# Altium footprint library ionis.PcbLib: 70 footprints (part 4 of 5)
Each footprint in its own frame and in the unit in brackets; x right, y up, seen from the top. Pads: shape width x height; smd on the part's side, far side on the other; paste and mask are expansions set on the pad; w line width, h text height; cw(c..) or ccw(c..) is an arc to the next point about the centre after c.
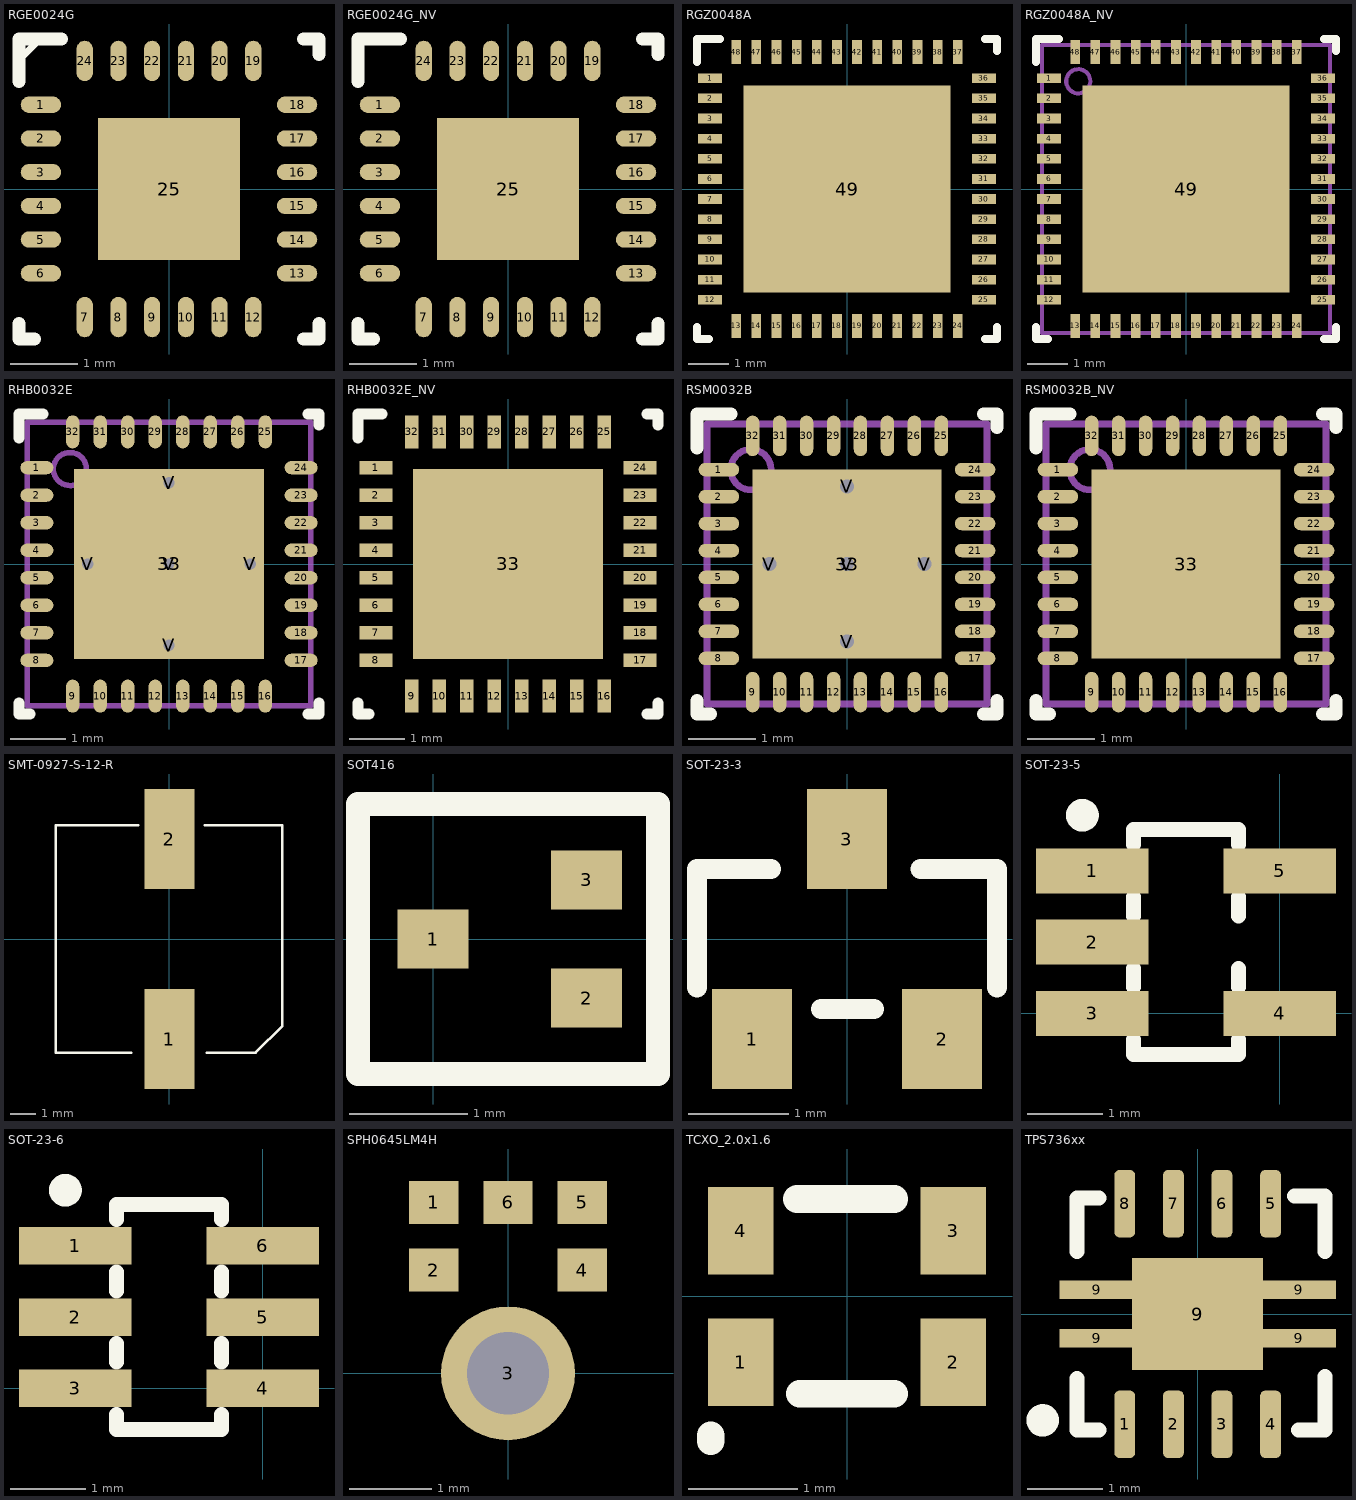
[diagram p3: the footprints below, top view; thin cyan lines are the x and y axes]

## RGE0024G [mm]
pads (25):
  oval 0.6x0.24 smd paste+0 mask+0.051: 1(-1.9,1.25) 2(-1.9,0.75) 3(-1.9,0.25) 4(-1.9,-0.25) 5(-1.9,-0.75) 6(-1.9,-1.25) 13(1.9,-1.25) 14(1.9,-0.75) 15(1.9,-0.25) 16(1.9,0.25) 17(1.9,0.75) 18(1.9,1.25)
  oval 0.24x0.6 smd paste+0 mask+0.051: 7(-1.25,-1.9) 8(-0.75,-1.9) 9(-0.25,-1.9) 10(0.25,-1.9) 11(0.75,-1.9) 12(1.25,-1.9) 19(1.25,1.9) 20(0.75,1.9) 21(0.25,1.9) 22(-0.25,1.9) 23(-0.75,1.9) 24(-1.25,1.9)
  rect 2.1x2.1 smd paste-1.037 mask+0.051: 25(0,0)
Top Overlay:
  lines w0.102: -1.912,2.225 -2.225,1.913 ; -2.225,1.913 -2.225,1.913
  lines w0.2: -2.225,-2 -2.225,-2.225 -2,-2.225 ; -2.225,1.6 -2.225,2.225 -1.6,2.225 ; 2,-2.225 2.225,-2.225 2.225,-2 ; 2,2.225 2.225,2.225 2.225,2
Top Paste:
  region: 0.1,1.039 0.1,0.1 1.039,0.1 1.039,1.039
  region: -0.1,0.1 -0.1,1.039 -1.039,1.039 -1.039,0.1
  region: -0.1,-1.039 -0.1,-0.1 -1.039,-0.1 -1.039,-1.039
  region: 0.1,-0.1 0.1,-1.039 1.039,-1.039 1.039,-0.1
3D body: height 0.25, standoff 0, extent 0,0 0.254,0.254

## RGE0024G_NV [mm]
pads (25):
  oval 0.6x0.24 smd paste+0 mask+0.051: 1(-1.9,1.25) 2(-1.9,0.75) 3(-1.9,0.25) 4(-1.9,-0.25) 5(-1.9,-0.75) 6(-1.9,-1.25) 13(1.9,-1.25) 14(1.9,-0.75) 15(1.9,-0.25) 16(1.9,0.25) 17(1.9,0.75) 18(1.9,1.25)
  oval 0.24x0.6 smd paste+0 mask+0.051: 7(-1.25,-1.9) 8(-0.75,-1.9) 9(-0.25,-1.9) 10(0.25,-1.9) 11(0.75,-1.9) 12(1.25,-1.9) 19(1.25,1.9) 20(0.75,1.9) 21(0.25,1.9) 22(-0.25,1.9) 23(-0.75,1.9) 24(-1.25,1.9)
  rect 2.1x2.1 smd paste-1.037 mask+0.051: 25(0,0)
Top Overlay:
  lines w0.2: -2.225,-2 -2.225,-2.225 -2,-2.225 ; -2.225,1.6 -2.225,2.225 -1.6,2.225 ; 2,-2.225 2.225,-2.225 2.225,-2 ; 2,2.225 2.225,2.225 2.225,2
Top Paste:
  region: 0.1,-0.1 0.1,-1.039 1.039,-1.039 1.039,-0.1
  region: -0.1,-1.039 -0.1,-0.1 -1.039,-0.1 -1.039,-1.039
  region: -0.1,0.1 -0.1,1.039 -1.039,1.039 -1.039,0.1
  region: 0.1,1.039 0.1,0.1 1.039,0.1 1.039,1.039
3D body: height 0.25, standoff 0, extent 0,0 0.254,0.254

## RGZ0048A [mm]
pads (49):
  rect 0.6x0.24 smd paste+0 mask+0.051: 1(-3.4,2.75) 2(-3.4,2.25) 3(-3.4,1.75) 4(-3.4,1.25) 5(-3.4,0.75) 6(-3.4,0.25) 7(-3.4,-0.25) 8(-3.4,-0.75) 9(-3.4,-1.25) 10(-3.4,-1.75) 11(-3.4,-2.25) 12(-3.4,-2.75) 25(3.4,-2.75) 26(3.4,-2.25) 27(3.4,-1.75) 28(3.4,-1.25) 29(3.4,-0.75) 30(3.4,-0.25) 31(3.4,0.25) 32(3.4,0.75) 33(3.4,1.25) 34(3.4,1.75) 35(3.4,2.25) 36(3.4,2.75)
  rect 0.24x0.6 smd paste+0 mask+0.051: 13(-2.75,-3.4) 14(-2.25,-3.4) 15(-1.75,-3.4) 16(-1.25,-3.4) 17(-0.75,-3.4) 18(-0.25,-3.4) 19(0.25,-3.4) 20(0.75,-3.4) 21(1.25,-3.4) 22(1.75,-3.4) 23(2.25,-3.4) 24(2.75,-3.4) 37(2.75,3.4) 38(2.25,3.4) 39(1.75,3.4) 40(1.25,3.4) 41(0.75,3.4) 42(0.25,3.4) 43(-0.25,3.4) 44(-0.75,3.4) 45(-1.25,3.4) 46(-1.75,3.4) 47(-2.25,3.4) 48(-2.75,3.4)
  rect 5.15x5.15 smd paste-2.562 mask+0.051: 49(0,0)
Top Overlay:
  lines w0.2: -3.725,-3.425 -3.725,-3.725 -3.425,-3.725 ; -3.725,3.15 -3.725,3.725 -3.15,3.725 ; 3.425,-3.725 3.725,-3.725 3.725,-3.425 ; 3.425,3.725 3.725,3.725 3.725,3.425

## RGZ0048A_NV [mm]
pads (49):
  rect 0.6x0.24 smd paste+0 mask+0.051: 1(-3.4,2.75) 2(-3.4,2.25) 3(-3.4,1.75) 4(-3.4,1.25) 5(-3.4,0.75) 6(-3.4,0.25) 7(-3.4,-0.25) 8(-3.4,-0.75) 9(-3.4,-1.25) 10(-3.4,-1.75) 11(-3.4,-2.25) 12(-3.4,-2.75) 25(3.4,-2.75) 26(3.4,-2.25) 27(3.4,-1.75) 28(3.4,-1.25) 29(3.4,-0.75) 30(3.4,-0.25) 31(3.4,0.25) 32(3.4,0.75) 33(3.4,1.25) 34(3.4,1.75) 35(3.4,2.25) 36(3.4,2.75)
  rect 0.24x0.6 smd paste+0 mask+0.051: 13(-2.75,-3.4) 14(-2.25,-3.4) 15(-1.75,-3.4) 16(-1.25,-3.4) 17(-0.75,-3.4) 18(-0.25,-3.4) 19(0.25,-3.4) 20(0.75,-3.4) 21(1.25,-3.4) 22(1.75,-3.4) 23(2.25,-3.4) 24(2.75,-3.4) 37(2.75,3.4) 38(2.25,3.4) 39(1.75,3.4) 40(1.25,3.4) 41(0.75,3.4) 42(0.25,3.4) 43(-0.25,3.4) 44(-0.75,3.4) 45(-1.25,3.4) 46(-1.75,3.4) 47(-2.25,3.4) 48(-2.75,3.4)
  rect 5.15x5.15 smd paste-2.562 mask+0.051: 49(0,0)
Top Overlay:
  lines w0.2: -3.725,-3.425 -3.725,-3.725 -3.425,-3.725 ; -3.725,3.15 -3.725,3.725 -3.15,3.725 ; 3.425,-3.725 3.725,-3.725 3.725,-3.425 ; 3.425,3.725 3.725,3.725 3.725,3.425
Top Paste:
  region: -0.903,-2.31 -0.903,-0.903 -2.31,-0.903 -2.31,-2.31
  region: 0.904,-0.903 0.904,-2.31 2.311,-2.31 2.311,-0.903
  region: -0.703,-0.903 -0.703,-2.31 0.704,-2.31 0.704,-0.903
  region: -0.703,2.311 -0.703,0.904 0.704,0.904 0.704,2.311
  region: 0.904,2.311 0.904,0.904 2.311,0.904 2.311,2.311
  region: -0.903,0.904 -0.903,2.311 -2.31,2.311 -2.31,0.904
  region: -0.903,-0.703 -0.903,0.704 -2.31,0.704 -2.31,-0.703
  region: 0.904,0.704 0.904,-0.703 2.311,-0.703 2.311,0.704
  region: -0.703,0.704 -0.703,-0.703 0.704,-0.703 0.704,0.704
Mechanical 13:
  circle w0.1: c-2.675,2.675 r0.3
  lines w0.1: -3.575,-3.575 3.575,-3.575 3.575,3.575 -3.575,3.575 -3.575,-3.575

## RHB0032E [mm]
pads (38):
  oval 0.6x0.24 smd paste+0 mask+0.051: 1(-2.4,1.75) 2(-2.4,1.25) 3(-2.4,0.75) 4(-2.4,0.25) 5(-2.4,-0.25) 6(-2.4,-0.75) 7(-2.4,-1.25) 8(-2.4,-1.75) 17(2.4,-1.75) 18(2.4,-1.25) 19(2.4,-0.75) 20(2.4,-0.25) 21(2.4,0.25) 22(2.4,0.75) 23(2.4,1.25) 24(2.4,1.75)
  oval 0.24x0.6 smd paste+0 mask+0.051: 9(-1.75,-2.4) 10(-1.25,-2.4) 11(-0.75,-2.4) 12(-0.25,-2.4) 13(0.25,-2.4) 14(0.75,-2.4) 15(1.25,-2.4) 16(1.75,-2.4) 25(1.75,2.4) 26(1.25,2.4) 27(0.75,2.4) 28(0.25,2.4) 29(-0.25,2.4) 30(-0.75,2.4) 31(-1.25,2.4) 32(-1.75,2.4)
  rect 3.45x3.45 smd paste-1.712 mask+0.051: 33(0,0)
  round 0.5 / inner round 1.524 / far side round 0.5 hole 0.203 mask+0.051: V(-1.475,0) V(0,-1.475) V(0,0) V(0,1.475) V(1.475,0)
Top Overlay:
  lines w0.2: -2.725,-2.525 -2.725,-2.725 -2.525,-2.725 ; -2.725,2.29 -2.725,2.725 -2.29,2.725 ; 2.525,-2.725 2.725,-2.725 2.725,-2.525 ; 2.525,2.725 2.725,2.725 2.725,2.525
Top Paste:
  region: 0.1,-0.1 0.1,-1.586 1.586,-1.586 1.586,-0.1
  region: -0.1,-1.586 -0.1,-0.1 -1.586,-0.1 -1.586,-1.586
  region: -0.1,0.1 -0.1,1.586 -1.586,1.586 -1.586,0.1
  region: 0.1,1.586 0.1,0.1 1.586,0.1 1.586,1.586
Mechanical 13:
  circle w0.1: c-1.8,1.725 r0.3
  lines w0.1: -2.575,-2.575 -2.575,2.575 2.575,2.575 2.575,-2.575 -2.575,-2.575
3D body: height 0.25, standoff 0, extent 0,0 0.254,0.254

## RHB0032E_NV [mm]
pads (33):
  rect 0.6x0.25 smd paste+0 mask+0.051: 1(-2.4,1.75) 2(-2.4,1.25) 3(-2.4,0.75) 4(-2.4,0.25) 5(-2.4,-0.25) 6(-2.4,-0.75) 7(-2.4,-1.25) 8(-2.4,-1.75) 17(2.4,-1.75) 18(2.4,-1.25) 19(2.4,-0.75) 20(2.4,-0.25) 21(2.4,0.25) 22(2.4,0.75) 23(2.4,1.25) 24(2.4,1.75)
  rect 0.25x0.6 smd paste+0 mask+0.051: 9(-1.75,-2.4) 10(-1.25,-2.4) 11(-0.75,-2.4) 12(-0.25,-2.4) 13(0.25,-2.4) 14(0.75,-2.4) 15(1.25,-2.4) 16(1.75,-2.4) 25(1.75,2.4) 26(1.25,2.4) 27(0.75,2.4) 28(0.25,2.4) 29(-0.25,2.4) 30(-0.75,2.4) 31(-1.25,2.4) 32(-1.75,2.4)
  rect 3.45x3.45 smd paste-1.712 mask+0.051: 33(0,0)
Top Overlay:
  lines w0.2: -2.725,-2.525 -2.725,-2.725 -2.525,-2.725 ; -2.725,2.29 -2.725,2.725 -2.29,2.725 ; 2.525,-2.725 2.725,-2.725 2.725,-2.525 ; 2.525,2.725 2.725,2.725 2.725,2.525
Top Paste:
  region: -1.589,-1.548 -1.59,-1.538 -1.59,-0.152 -1.589,-0.142 -1.586,-0.132 -1.581,-0.123 -1.575,-0.115 -1.567,-0.109 -1.558,-0.104 -1.548,-0.101 -1.538,-0.1 -0.152,-0.1 -0.142,-0.101 -0.132,-0.104 -0.123,-0.109 -0.115,-0.115 -0.109,-0.123 -0.104,-0.132 -0.101,-0.142 -0.1,-0.152 -0.1,-1.538 -0.101,-1.548 -0.104,-1.558 -0.109,-1.567 -0.115,-1.575 -0.123,-1.581 -0.132,-1.586 -0.142,-1.589 -0.152,-1.59 -1.538,-1.59 -1.548,-1.589 -1.558,-1.586 -1.567,-1.581 -1.575,-1.575 -1.581,-1.567 -1.586,-1.558
  region: 1.589,-0.142 1.59,-0.152 1.59,-1.538 1.589,-1.548 1.586,-1.558 1.581,-1.567 1.575,-1.575 1.567,-1.581 1.558,-1.586 1.548,-1.589 1.538,-1.59 0.152,-1.59 0.142,-1.589 0.132,-1.586 0.123,-1.581 0.115,-1.575 0.109,-1.567 0.104,-1.558 0.101,-1.548 0.1,-1.538 0.1,-0.152 0.101,-0.142 0.104,-0.132 0.109,-0.123 0.115,-0.115 0.123,-0.109 0.132,-0.104 0.142,-0.101 0.152,-0.1 1.538,-0.1 1.548,-0.101 1.558,-0.104 1.567,-0.109 1.575,-0.115 1.581,-0.123 1.586,-0.132
  region: 1.589,1.548 1.59,1.538 1.59,0.152 1.589,0.142 1.586,0.132 1.581,0.123 1.575,0.115 1.567,0.109 1.558,0.104 1.548,0.101 1.538,0.1 0.152,0.1 0.142,0.101 0.132,0.104 0.123,0.109 0.115,0.115 0.109,0.123 0.104,0.132 0.101,0.142 0.1,0.152 0.1,1.538 0.101,1.548 0.104,1.558 0.109,1.567 0.115,1.575 0.123,1.581 0.132,1.586 0.142,1.589 0.152,1.59 1.538,1.59 1.548,1.589 1.558,1.586 1.567,1.581 1.575,1.575 1.581,1.567 1.586,1.558
  region: -1.589,0.142 -1.59,0.152 -1.59,1.538 -1.589,1.548 -1.586,1.558 -1.581,1.567 -1.575,1.575 -1.567,1.581 -1.558,1.586 -1.548,1.589 -1.538,1.59 -0.152,1.59 -0.142,1.589 -0.132,1.586 -0.123,1.581 -0.115,1.575 -0.109,1.567 -0.104,1.558 -0.101,1.548 -0.1,1.538 -0.1,0.152 -0.101,0.142 -0.104,0.132 -0.109,0.123 -0.115,0.115 -0.123,0.109 -0.132,0.104 -0.142,0.101 -0.152,0.1 -1.538,0.1 -1.548,0.101 -1.558,0.104 -1.567,0.109 -1.575,0.115 -1.581,0.123 -1.586,0.132
3D body: height 0.25, standoff 0, extent 0,0 0.254,0.254

## RSM0032B [mm]
pads (38):
  oval 0.6x0.2 smd paste+0 mask+0.051: 1(-1.9,1.4) 2(-1.9,1) 3(-1.9,0.6) 4(-1.9,0.2) 5(-1.9,-0.2) 6(-1.9,-0.6) 7(-1.9,-1) 8(-1.9,-1.4) 17(1.9,-1.4) 18(1.9,-1) 19(1.9,-0.6) 20(1.9,-0.2) 21(1.9,0.2) 22(1.9,0.6) 23(1.9,1) 24(1.9,1.4)
  oval 0.2x0.6 smd paste+0 mask+0.051: 9(-1.4,-1.9) 10(-1,-1.9) 11(-0.6,-1.9) 12(-0.2,-1.9) 13(0.2,-1.9) 14(0.6,-1.9) 15(1,-1.9) 16(1.4,-1.9) 25(1.4,1.9) 26(1,1.9) 27(0.6,1.9) 28(0.2,1.9) 29(-0.2,1.9) 30(-0.6,1.9) 31(-1,1.9) 32(-1.4,1.9)
  rect 2.8x2.8 smd paste-1.387 mask+0.051: 33(0,0)
  round 0.5 / inner round 1.524 / far side round 0.5 hole 0.203 mask+0.051: V(-1.15,0) V(0,-1.15) V(0,0) V(0,1.15) V(1.15,0)
Top Overlay:
  lines w0.2: -2.225,-2.025 -2.225,-2.225 -2.025,-2.225 ; -2.225,1.725 -2.225,2.225 -1.725,2.225 ; 2.025,-2.225 2.225,-2.225 2.225,-2.025 ; 2.025,2.225 2.225,2.225 2.225,2.025
Top Paste:
  region: 0.1,-1.329 1.329,-1.329 1.329,-0.1 0.1,-0.1
  region: -1.329,-1.329 -0.1,-1.329 -0.1,-0.1 -1.329,-0.1
  region: 0.1,0.1 1.329,0.1 1.329,1.329 0.1,1.329
  region: -1.329,0.1 -0.1,0.1 -0.1,1.329 -1.329,1.329
Mechanical 13:
  circle w0.1: c-1.425,1.4 r0.3
  lines w0.1: -2.075,-2.075 2.075,-2.075 2.075,2.075 -2.075,2.075 -2.075,-2.075
3D body: height 0.25, standoff 0, extent 0,0 0.254,0.254

## RSM0032B_NV [mm]
pads (33):
  oval 0.6x0.2 smd paste+0 mask+0.051: 1(-1.9,1.4) 2(-1.9,1) 3(-1.9,0.6) 4(-1.9,0.2) 5(-1.9,-0.2) 6(-1.9,-0.6) 7(-1.9,-1) 8(-1.9,-1.4) 17(1.9,-1.4) 18(1.9,-1) 19(1.9,-0.6) 20(1.9,-0.2) 21(1.9,0.2) 22(1.9,0.6) 23(1.9,1) 24(1.9,1.4)
  oval 0.2x0.6 smd paste+0 mask+0.051: 9(-1.4,-1.9) 10(-1,-1.9) 11(-0.6,-1.9) 12(-0.2,-1.9) 13(0.2,-1.9) 14(0.6,-1.9) 15(1,-1.9) 16(1.4,-1.9) 25(1.4,1.9) 26(1,1.9) 27(0.6,1.9) 28(0.2,1.9) 29(-0.2,1.9) 30(-0.6,1.9) 31(-1,1.9) 32(-1.4,1.9)
  rect 2.8x2.8 smd paste-1.387 mask+0.051: 33(0,0)
Top Overlay:
  lines w0.2: -2.225,-2.025 -2.225,-2.225 -2.025,-2.225 ; -2.225,1.725 -2.225,2.225 -1.725,2.225 ; 2.025,-2.225 2.225,-2.225 2.225,-2.025 ; 2.025,2.225 2.225,2.225 2.225,2.025
Top Paste:
  region: 0.1,-1.329 1.329,-1.329 1.329,-0.1 0.1,-0.1
  region: -1.329,-1.329 -0.1,-1.329 -0.1,-0.1 -1.329,-0.1
  region: 0.1,0.1 1.329,0.1 1.329,1.329 0.1,1.329
  region: -1.329,0.1 -0.1,0.1 -0.1,1.329 -1.329,1.329
Mechanical 13:
  circle w0.1: c-1.425,1.4 r0.3
  lines w0.1: -2.075,-2.075 -2.075,2.075 2.075,2.075 2.075,-2.075 -2.075,-2.075
3D body: height 0.25, standoff 0, extent 0,0 0.254,0.254

## SMT-0927-S-12-R [mm] "sound transducer"
pads (2):
  rect 2x4 smd: 1(0,-4) 2(0,4)
Top Overlay:
  lines w0.102: -1.524,-4.547 -4.547,-4.547 -4.547,4.547 -1.245,4.547 ; 1.422,4.547 4.521,4.547 4.521,-3.48 3.454,-4.547 1.499,-4.547

## SOT416 [mm]
pads (3):
  rect 0.6x0.5 smd: 1(0,0) 2(1.3,-0.5) 3(1.3,0.5)
Top Overlay:
  lines w0.2: -0.635,-1.143 1.905,-1.143 1.905,1.143 -0.635,1.143 -0.635,0.572 -0.635,-0.572 -0.635,-1.143

## SOT-23-3 [mm]
pads (3):
  rect 0.8x1 smd: 1(-0.95,-1) 2(0.95,-1) 3(0,1)
Top Overlay:
  lines w0.2: -1.5,-0.483 -1.5,0.7 -0.762,0.7 ; -0.26,-0.7 0.27,-0.7 ; 0.737,0.7 1.5,0.7 1.5,-0.483

## SOT-23-5 [mm]
pads (5):
  rect 1.5x0.6 smd: 1(-2.5,1.9) 2(-2.5,0.95) 3(-2.5,0) 4(0,0) 5(0,1.9)
Top Overlay:
  circle w0.254: c-2.632,2.642 r0.092
  lines w0.2: -1.95,-0.35 -1.95,-0.55 -0.55,-0.55 -0.55,-0.35 ; -1.95,0.35 -1.95,0.6 ; -1.95,1.3 -1.95,1.55 ; -1.95,2.25 -1.95,2.45 -0.55,2.45 -0.55,2.25 ; -0.55,0.35 -0.55,0.6 ; -0.55,1.3 -0.55,1.55

## SOT-23-6 [mm]
pads (6):
  rect 1.5x0.5 smd: 1(-2.5,1.9) 2(-2.5,0.95) 3(-2.5,0) 4(0,0) 5(0,0.95) 6(0,1.9)
Top Overlay:
  circle w0.254: c-2.632,2.642 r0.092
  lines w0.2: -1.95,-0.35 -1.95,-0.55 -0.55,-0.55 -0.55,-0.35 ; -1.95,0.35 -1.95,0.6 ; -1.95,1.3 -1.95,1.55 ; -1.95,2.25 -1.95,2.45 -0.55,2.45 -0.55,2.25 ; -0.55,0.35 -0.55,0.6 ; -0.55,1.3 -0.55,1.55

## SPH0645LM4H [mm] "microphone"
pads (6):
  rect 0.6x0.522 smd: 1(-0.9,2.074) 2(-0.9,1.252) 4(0.9,1.252) 5(0.9,2.074) 6(0,2.074)
  round 1.624 hole 1: 3(0,0)
Bottom Overlay:
  lines w0.2: 1.3,-1.1 -1.35,-1.1 -1.35,2.54 1.3,2.54 ; 1.35,-1.1 1.35,2.54

## TCXO_2.0x1.6 [mm]
pads (4):
  rect 0.6x0.8 smd: 1(-0.97,-0.6) 2(0.97,-0.6) 3(0.97,0.6) 4(-0.97,0.6)
Top Overlay:
  lines w0.254: -1.245,-1.321 -1.245,-1.27 ; -0.457,0.889 0.432,0.889 ; -0.432,-0.889 0.432,-0.889

## TPS736xx [mm]
pads (13):
  rrect50% 0.28x0.9 smd: 1(-0.975,-1.475) 2(-0.325,-1.475) 3(0.325,-1.475) 4(0.975,-1.475) 5(0.975,1.475) 6(0.325,1.475) 7(-0.325,1.475) 8(-0.975,1.475)
  rect 1x0.25 smd: 9(-1.35,-0.325) 9(-1.35,0.325) 9(1.35,-0.325) 9(1.35,0.325)
  rect 1.75x1.5 smd: 9(0,0)
Top Overlay:
  circle w0.254: c-2.071,-1.422 r0.09
  lines w0.2: -1.614,-0.864 -1.614,-1.549 -1.321,-1.549 ; -1.614,0.838 -1.614,1.548 -1.321,1.549 ; 1.295,1.575 1.702,1.575 1.702,0.838 ; 1.346,-1.549 1.702,-1.549 1.702,-0.838